# EAGLE library part DRV8313RHHR (library DRV8313RHHR)
TEXAS INSTRUMENTS - DRV8313RHHR - MOTOR DRIVER, 3P BLDC, 1.75A, VQFN-36 Source: Datasheet <http://www.ti.com/lit/ds/symlink/drv8313.pdf>
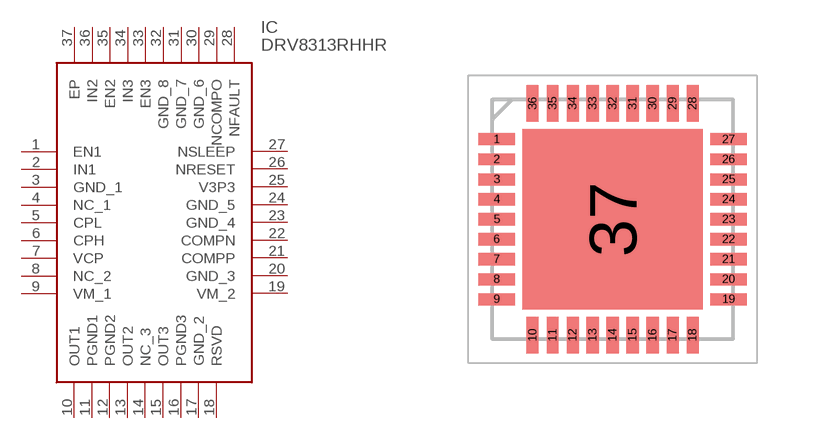
[diagram p0: symbol with the pads of QFN50P600X600X100-37N; footprint QFN50P600X600X100-37N]

Designator prefix IC

## DRV8313RHHR (Arrow_Part_Number: DRV8313RHHR; Arrow_Price-Stock: https://www.arrow.com/en/products/drv8313rhhr/texas-instruments; Description: TEXAS INSTRUMENTS - DRV8313RHHR - MOTOR DRIVER, 3P BLDC, 1.75A, VQFN-36; Height: 1mm; Manufacturer_Name: Texas Instruments; Manufacturer_Part_Number: DRV8313RHHR; Mouser_Part_Number: 595-DRV8313RHHR; Mouser_Price-Stock: https://www.mouser.co.uk/ProductDetail/Texas-Instruments/DRV8313RHHR?qs=VymPLiRQZIS1rnepRn1%252BBA%3D%3D)  [QFN50P600X600X100-37N]
1  EN1
2  IN1
3  GND_1
4  NC_1
5  CPL
6  CPH
7  VCP
8  NC_2
9  VM_1
10  OUT1
11  PGND1
12  PGND2
13  OUT2
14  NC_3
15  OUT3
16  PGND3
17  GND_2
18  RSVD
19  VM_2
20  GND_3
21  COMPP
22  COMPN
23  GND_4
24  GND_5
25  V3P3
26  NRESET
27  NSLEEP
28  NFAULT
29  NCOMPO
30  GND_6
31  GND_7
32  GND_8
33  EN3
34  IN3
35  EN2
36  IN2
37  EP

## Footprint QFN50P600X600X100-37N (pad centres in mm)
RHH (S-PVQFN-N36)_1
smd 0.9 x 0.3: 1 -2.9,2; 2 -2.9,1.5; 3 -2.9,1; 4 -2.9,0.5; 5 -2.9,0; 6 -2.9,-0.5; 7 -2.9,-1; 8 -2.9,-1.5; 9 -2.9,-2; 19 2.9,-2; 20 2.9,-1.5; 21 2.9,-1; 22 2.9,-0.5; 23 2.9,0; 24 2.9,0.5; 25 2.9,1; 26 2.9,1.5; 27 2.9,2
smd 0.3 x 0.9: 10 -2,-2.9; 11 -1.5,-2.9; 12 -1,-2.9; 13 -0.5,-2.9; 14 0,-2.9; 15 0.5,-2.9; 16 1,-2.9; 17 1.5,-2.9; 18 2,-2.9; 28 2,2.9; 29 1.5,2.9; 30 1,2.9; 31 0.5,2.9; 32 0,2.9; 33 -0.5,2.9; 34 -1,2.9; 35 -1.5,2.9; 36 -2,2.9
smd 4.5 x 4.5: 37 0,0